# Altium footprint library DHT22.PcbLib: 1 footprints
Each footprint in its own frame and in the unit in brackets; x right, y up, seen from the top. Pads: shape width x height; smd on the part's side, far side on the other; paste and mask are expansions set on the pad; w line width, h text height; cw(c..) or ccw(c..) is an arc to the next point about the centre after c.
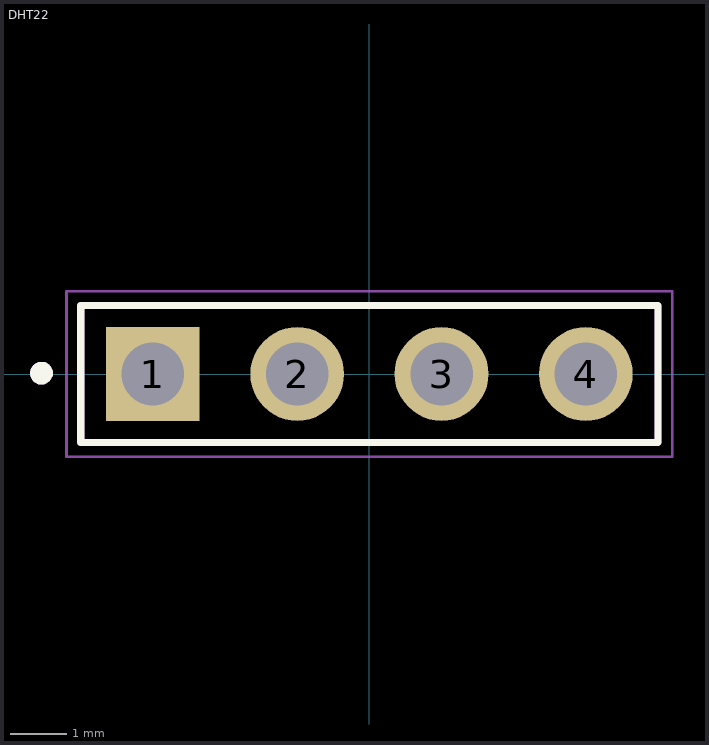
[diagram p0: the footprint, top view; thin cyan lines are the x and y axes]

## DHT22 [mm]
height 8.58
pads (4):
  rect 1.65x1.65 / inner round 1.65 / far side rect 1.65x1.65 hole 1.1: 1(-3.81,0)
  round 1.65 hole 1.1: 2(-1.27,0) 3(1.27,0) 4(3.81,0)
Top Overlay:
  circle w0.2: c-5.77,0.015 r0.1
  lines w0.127: -5.08,-1.205 5.08,-1.205 5.08,1.205 -5.08,1.205 -5.08,-1.205
Assembly Top:
  circle w0.2: c-5.77,0.015 r0.1
  lines w0.127: -5.08,-1.205 5.08,-1.205 5.08,1.205 -5.08,1.205 -5.08,-1.205
Courtyard Top:
  lines w0.05: -5.33,-1.455 5.33,-1.455 5.33,1.455 -5.33,1.455 -5.33,-1.455
3D body "DHT22.stp": height 25.25, standoff -8.35, extent -7.677,-5.842 7.423,1.858